# Altium integrated library Maxim Digital Potentiometers.IntLib: 1045 symbols (part 32 of 42)
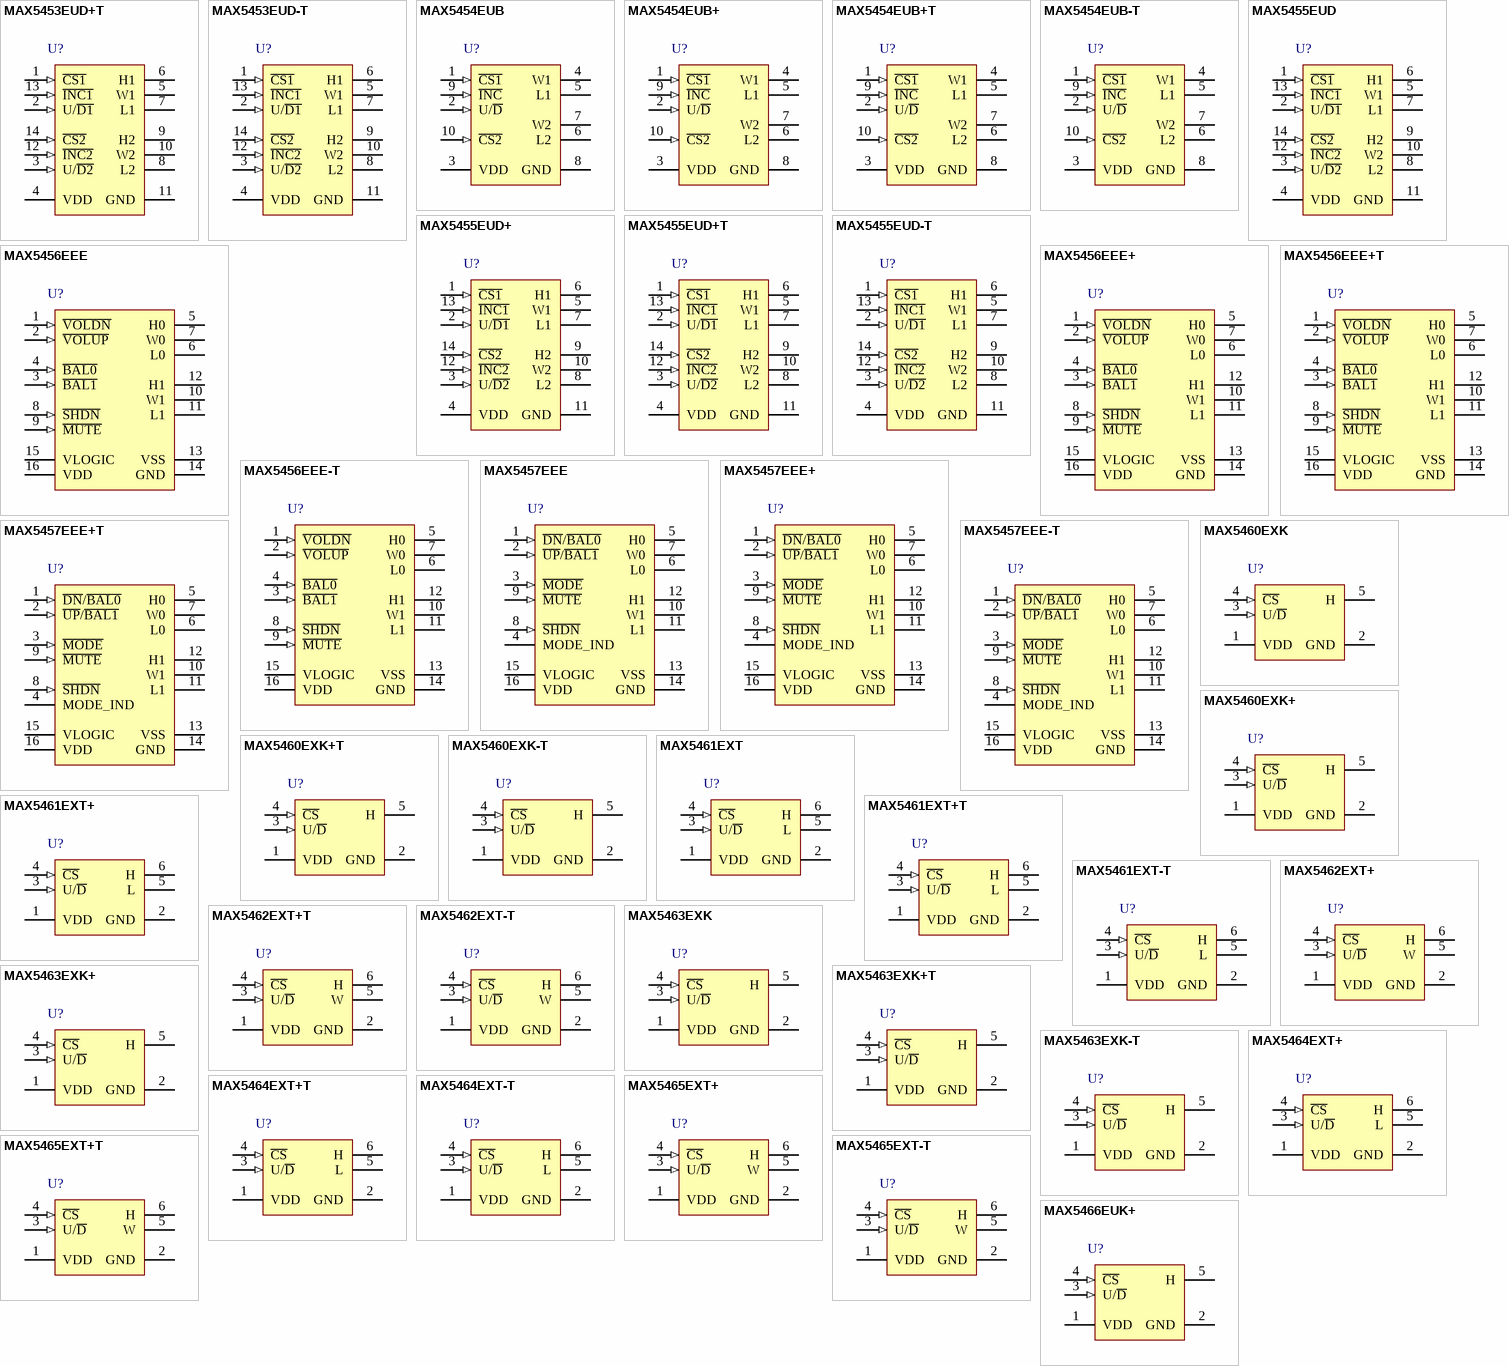
[diagram p60: symbols MAX5453EUD+T to MAX5466EUK+]

## MAX5462EXT+T
designator U?
FleaPot, Digital Potentiometers with 2-Wire Serial Control Interface, Volatile, Linear Taper, 32 Steps, -40 to 85 degC, 6-pin SC70 (X6SN+1), Pb-Free, Tape and Reel; PartNumber: MAX5462EXT+T; DatasheetVersion: Rev. 3; PackageVersion: Rev. H, 01/2010; PackageReference: X6SN+1; PackageDescription: 6-Pin SC70 Transistor Package (X6SN+1), Body 2 x 1.25 mm, Pitch 0.65 mm; Supplier 1: Digi-Key; Supplier Part Number 1: MAX5462EXT+TTR-ND; Supplier 2: Digi-Key; Supplier Part Number 2: MAX5462EXT+TCT-ND; Supplier 3: Digi-Key; Supplier Part Number 3: MAX5462EXT+TDKR-ND; Supplier 4: Mouser; Supplier Part Number 4: 700-MAX5462EXTT; Control Interface: 2-Wire Serial; Mounting Technology: Surface Mount; Code_JEDEC: MO-203; ComponentLink1Description: Manufacturer URL; ComponentLink1URL: http://www.maximintegrated.com/; ComponentLink2Description: Datasheet; ComponentLink2URL: http://datasheets.maximintegrated.com/en/ds/MAX5460-MAX5468.pdf; ComponentLink3Description: Package Specification; ComponentLink3URL: http://pdfserv.maximintegrated.com/package_dwgs/21-0077.PDF
footprint MAXM-X6SN+1_N (SOT23, 6-Leads, Body 2x1.25mm, Pitch 0.65mm, IPC Medium Density)
footprint MAXM-X6SN+1_L (SOT23, 6-Leads, Body 2x1.25mm, Pitch 0.65mm, IPC High Density)
footprint MAXM-X6SN+1_M (SOT23, 6-Leads, Body 2x1.25mm, Pitch 0.65mm, IPC Low Density)
pins: 1 VDD (power) "Power Supply", 2 GND (power) "Ground", 3 U/~{D} (in) "Up/D\o\w\n\ Control Input. With C\S\ low, a low-to-high transition increments or decrements the wiper position.", 4 ~{CS} (in) "Chip Select Input. A high-to-low C\S\ transition determines the mode: increment if U/D\ is high, or decrement if U/D\ is low.", 5 W "Wiper Terminal of Resistor", 6 H "High Terminal of Resistor"

## MAX5462EXT-T
designator U?
FleaPot, Digital Potentiometers with 2-Wire Serial Control Interface, Volatile, Linear Taper, 32 Steps, -40 to 85 degC, 6-pin SC70 (X6SN-1), Tape and Reel; PartNumber: MAX5462EXT-T; DatasheetVersion: Rev. 3; PackageVersion: Rev. H, 01/2010; PackageReference: X6SN-1; PackageDescription: 6-Pin SC70 Transistor Package (X6SN-1), Body 2 x 1.25 mm, Pitch 0.65 mm; Supplier 1: Mouser; Supplier Part Number 1: N/A; Control Interface: 2-Wire Serial; Mounting Technology: Surface Mount; Code_JEDEC: MO-203; ComponentLink1Description: Manufacturer URL; ComponentLink1URL: http://www.maximintegrated.com/; ComponentLink2Description: Datasheet; ComponentLink2URL: http://datasheets.maximintegrated.com/en/ds/MAX5460-MAX5468.pdf; ComponentLink3Description: Package Specification; ComponentLink3URL: http://pdfserv.maximintegrated.com/package_dwgs/21-0077.PDF
footprint MAXM-X6SN-1_N (SOT23, 6-Leads, Body 2x1.25mm, Pitch 0.65mm, IPC Medium Density)
footprint MAXM-X6SN-1_L (SOT23, 6-Leads, Body 2x1.25mm, Pitch 0.65mm, IPC High Density)
footprint MAXM-X6SN-1_M (SOT23, 6-Leads, Body 2x1.25mm, Pitch 0.65mm, IPC Low Density)
pins: 1 VDD (power) "Power Supply", 2 GND (power) "Ground", 3 U/~{D} (in) "Up/D\o\w\n\ Control Input. With C\S\ low, a low-to-high transition increments or decrements the wiper position.", 4 ~{CS} (in) "Chip Select Input. A high-to-low C\S\ transition determines the mode: increment if U/D\ is high, or decrement if U/D\ is low.", 5 W "Wiper Terminal of Resistor", 6 H "High Terminal of Resistor"

## MAX5463EXK
designator U?
Digital Potentiometer with 2-Wire Serial Control Interface, Volatile, Linear Taper, 32 Steps, -40 to 85 degC, 5-pin SC70 (X5-1); PartNumber: MAX5463EXK; DatasheetVersion: Rev. 3; PackageVersion: Rev. F, 06/2011; PackageReference: X5-1; PackageDescription: 5-Pin SC70 Transistor Package (X5-1), Body 2 x 1.25 mm, Pitch 0.65 mm; Supplier 1: Mouser; Supplier Part Number 1: N/A; Control Interface: 2-Wire Serial; Mounting Technology: Surface Mount; Code_JEDEC: MO-203; ComponentLink1Description: Manufacturer URL; ComponentLink1URL: http://www.maximintegrated.com/; ComponentLink2Description: Datasheet; ComponentLink2URL: http://datasheets.maximintegrated.com/en/ds/MAX5460-MAX5468.pdf; ComponentLink3Description: Package Specification; ComponentLink3URL: http://pdfserv.maximintegrated.com/package_dwgs/21-0076.PDF
footprint MAXM-X5-1_N (SOT23, 5-Leads, Body 2x1.25mm, Pitch 0.65mm, IPC Medium Density)
footprint MAXM-X5-1_L (SOT23, 5-Leads, Body 2x1.25mm, Pitch 0.65mm, IPC High Density)
footprint MAXM-X5-1_M (SOT23, 5-Leads, Body 2x1.25mm, Pitch 0.65mm, IPC Low Density)
pins: 1 VDD (power) "Power Supply", 2 GND (power) "Ground", 3 U/~{D} (in) "Up/D\o\w\n\ Control Input. With C\S\ low, a low-to-high transition increments or decrements the wiper position", 4 ~{CS} (in) "Chip Select Input. A high-to-low C\S\ transition determines the mode: increment if U/D\ is high, or decrement if U/D\ is low", 5 H "High Terminal of Resistor"

## MAX5463EXK+
designator U?
Digital Potentiometer with 2-Wire Serial Control Interface, Volatile, Linear Taper, 32 Steps, -40 to 85 degC, 5-pin SC70 (X5+1), Pb-Free; PartNumber: MAX5463EXK+; DatasheetVersion: Rev. 3; PackageVersion: Rev. F, 06/2011; PackageReference: X5+1; PackageDescription: 5-Pin SC70 Transistor Package (X5+1), Body 2 x 1.25 mm, Pitch 0.65 mm; Supplier 1: Mouser; Supplier Part Number 1: N/A; Control Interface: 2-Wire Serial; Mounting Technology: Surface Mount; Code_JEDEC: MO-203; ComponentLink1Description: Manufacturer URL; ComponentLink1URL: http://www.maximintegrated.com/; ComponentLink2Description: Datasheet; ComponentLink2URL: http://datasheets.maximintegrated.com/en/ds/MAX5460-MAX5468.pdf; ComponentLink3Description: Package Specification; ComponentLink3URL: http://pdfserv.maximintegrated.com/package_dwgs/21-0076.PDF
footprint MAXM-X5+1_N (SOT23, 5-Leads, Body 2x1.25mm, Pitch 0.65mm, IPC Medium Density)
footprint MAXM-X5+1_L (SOT23, 5-Leads, Body 2x1.25mm, Pitch 0.65mm, IPC High Density)
footprint MAXM-X5+1_M (SOT23, 5-Leads, Body 2x1.25mm, Pitch 0.65mm, IPC Low Density)
pins: 1 VDD (power) "Power Supply", 2 GND (power) "Ground", 3 U/~{D} (in) "Up/D\o\w\n\ Control Input. With C\S\ low, a low-to-high transition increments or decrements the wiper position", 4 ~{CS} (in) "Chip Select Input. A high-to-low C\S\ transition determines the mode: increment if U/D\ is high, or decrement if U/D\ is low", 5 H "High Terminal of Resistor"

## MAX5463EXK+T
designator U?
Digital Potentiometer with 2-Wire Serial Control Interface, Volatile, Linear Taper, 32 Steps, -40 to 85 degC, 5-pin SC70 (X5+1), Pb-Free, Tape and Reel; PartNumber: MAX5463EXK+T; DatasheetVersion: Rev. 3; PackageVersion: Rev. F, 06/2011; PackageReference: X5+1; PackageDescription: 5-Pin SC70 Transistor Package (X5+1), Body 2 x 1.25 mm, Pitch 0.65 mm; Supplier 1: Digi-Key; Supplier Part Number 1: MAX5463EXK+TTR-ND; Supplier 2: Digi-Key; Supplier Part Number 2: MAX5463EXK+TCT-ND; Supplier 3: Digi-Key; Supplier Part Number 3: MAX5463EXK+TDKR-ND; Supplier 4: Mouser; Supplier Part Number 4: 700-MAX5463EXKT; Control Interface: 2-Wire Serial; Mounting Technology: Surface Mount; Code_JEDEC: MO-203; ComponentLink1Description: Manufacturer URL; ComponentLink1URL: http://www.maximintegrated.com/; ComponentLink2Description: Datasheet; ComponentLink2URL: http://datasheets.maximintegrated.com/en/ds/MAX5460-MAX5468.pdf; ComponentLink3Description: Package Specification; ComponentLink3URL: http://pdfserv.maximintegrated.com/package_dwgs/21-0076.PDF
footprint MAXM-X5+1_N (SOT23, 5-Leads, Body 2x1.25mm, Pitch 0.65mm, IPC Medium Density)
footprint MAXM-X5+1_L (SOT23, 5-Leads, Body 2x1.25mm, Pitch 0.65mm, IPC High Density)
footprint MAXM-X5+1_M (SOT23, 5-Leads, Body 2x1.25mm, Pitch 0.65mm, IPC Low Density)
pins: 1 VDD (power) "Power Supply", 2 GND (power) "Ground", 3 U/~{D} (in) "Up/D\o\w\n\ Control Input. With C\S\ low, a low-to-high transition increments or decrements the wiper position", 4 ~{CS} (in) "Chip Select Input. A high-to-low C\S\ transition determines the mode: increment if U/D\ is high, or decrement if U/D\ is low", 5 H "High Terminal of Resistor"

## MAX5463EXK-T
designator U?
Digital Potentiometer with 2-Wire Serial Control Interface, Volatile, Linear Taper, 32 Steps, -40 to 85 degC, 5-pin SC70 (X5-1), Tape and Reel; PartNumber: MAX5463EXK-T; DatasheetVersion: Rev. 3; PackageVersion: Rev. F, 06/2011; PackageReference: X5-1; PackageDescription: 5-Pin SC70 Transistor Package (X5-1), Body 2 x 1.25 mm, Pitch 0.65 mm; Supplier 1: Mouser; Supplier Part Number 1: N/A; Control Interface: 2-Wire Serial; Mounting Technology: Surface Mount; Code_JEDEC: MO-203; ComponentLink1Description: Manufacturer URL; ComponentLink1URL: http://www.maximintegrated.com/; ComponentLink2Description: Datasheet; ComponentLink2URL: http://datasheets.maximintegrated.com/en/ds/MAX5460-MAX5468.pdf; ComponentLink3Description: Package Specification; ComponentLink3URL: http://pdfserv.maximintegrated.com/package_dwgs/21-0076.PDF
footprint MAXM-X5-1_N (SOT23, 5-Leads, Body 2x1.25mm, Pitch 0.65mm, IPC Medium Density)
footprint MAXM-X5-1_L (SOT23, 5-Leads, Body 2x1.25mm, Pitch 0.65mm, IPC High Density)
footprint MAXM-X5-1_M (SOT23, 5-Leads, Body 2x1.25mm, Pitch 0.65mm, IPC Low Density)
pins: 1 VDD (power) "Power Supply", 2 GND (power) "Ground", 3 U/~{D} (in) "Up/D\o\w\n\ Control Input. With C\S\ low, a low-to-high transition increments or decrements the wiper position", 4 ~{CS} (in) "Chip Select Input. A high-to-low C\S\ transition determines the mode: increment if U/D\ is high, or decrement if U/D\ is low", 5 H "High Terminal of Resistor"

## MAX5464EXT+
designator U?
Digital Potentiometers with 2-Wire Serial Control Interface, Volatile, Linear Taper, 32 Steps, -40 to 85 degC, 6-pin SC70 (X6SN+1), Pb-Free; PartNumber: MAX5464EXT+; DatasheetVersion: Rev. 3; PackageVersion: Rev. H, 01/2010; PackageReference: X6SN+1; PackageDescription: 6-Pin SC70 Transistor Package (X6SN+1), Body 2 x 1.25 mm, Pitch 0.65 mm; Supplier 1: Mouser; Supplier Part Number 1: N/A; Control Interface: 2-Wire Serial; Mounting Technology: Surface Mount; Code_JEDEC: MO-203; ComponentLink1Description: Manufacturer URL; ComponentLink1URL: http://www.maximintegrated.com/; ComponentLink2Description: Datasheet; ComponentLink2URL: http://datasheets.maximintegrated.com/en/ds/MAX5460-MAX5468.pdf; ComponentLink3Description: Package Specification; ComponentLink3URL: http://pdfserv.maximintegrated.com/package_dwgs/21-0077.PDF
footprint MAXM-X6SN+1_N (SOT23, 6-Leads, Body 2x1.25mm, Pitch 0.65mm, IPC Medium Density)
footprint MAXM-X6SN+1_L (SOT23, 6-Leads, Body 2x1.25mm, Pitch 0.65mm, IPC High Density)
footprint MAXM-X6SN+1_M (SOT23, 6-Leads, Body 2x1.25mm, Pitch 0.65mm, IPC Low Density)
pins: 1 VDD (power) "Power Supply", 2 GND (power) "Ground", 3 U/~{D} (in) "Up/D\o\w\n\ Control Input. With C\S\ low, a low-to-high transition increments or decrements the wiper position", 4 ~{CS} (in) "Chip Select Input. A high-to-low C\S\ transition determines the mode: increment if U/D\ is high, or decrement if U/D\ is low", 5 L "Low Terminal of Resistor", 6 H "High Terminal of Resistor"

## MAX5464EXT+T
designator U?
Digital Potentiometers with 2-Wire Serial Control Interface, Volatile, Linear Taper, 32 Steps, -40 to 85 degC, 6-pin SC70 (X6SN+1), Pb-Free, Tape and Reel; PartNumber: MAX5464EXT+T; DatasheetVersion: Rev. 3; PackageVersion: Rev. H, 01/2010; PackageReference: X6SN+1; PackageDescription: 6-Pin SC70 Transistor Package (X6SN+1), Body 2 x 1.25 mm, Pitch 0.65 mm; Supplier 1: Digi-Key; Supplier Part Number 1: MAX5464EXT+TTR-ND; Supplier 2: Digi-Key; Supplier Part Number 2: MAX5464EXT+TCT-ND; Supplier 3: Digi-Key; Supplier Part Number 3: MAX5464EXT+TDKR-ND; Supplier 4: Mouser; Supplier Part Number 4: 700-MAX5464EXTT; Control Interface: 2-Wire Serial; Mounting Technology: Surface Mount; Code_JEDEC: MO-203; ComponentLink1Description: Manufacturer URL; ComponentLink1URL: http://www.maximintegrated.com/; ComponentLink2Description: Datasheet; ComponentLink2URL: http://datasheets.maximintegrated.com/en/ds/MAX5460-MAX5468.pdf; ComponentLink3Description: Package Specification; ComponentLink3URL: http://pdfserv.maximintegrated.com/package_dwgs/21-0077.PDF
footprint MAXM-X6SN+1_N (SOT23, 6-Leads, Body 2x1.25mm, Pitch 0.65mm, IPC Medium Density)
footprint MAXM-X6SN+1_L (SOT23, 6-Leads, Body 2x1.25mm, Pitch 0.65mm, IPC High Density)
footprint MAXM-X6SN+1_M (SOT23, 6-Leads, Body 2x1.25mm, Pitch 0.65mm, IPC Low Density)
pins: 1 VDD (power) "Power Supply", 2 GND (power) "Ground", 3 U/~{D} (in) "Up/D\o\w\n\ Control Input. With C\S\ low, a low-to-high transition increments or decrements the wiper position", 4 ~{CS} (in) "Chip Select Input. A high-to-low C\S\ transition determines the mode: increment if U/D\ is high, or decrement if U/D\ is low", 5 L "Low Terminal of Resistor", 6 H "High Terminal of Resistor"

## MAX5464EXT-T
designator U?
Digital Potentiometers with 2-Wire Serial Control Interface, Volatile, Linear Taper, 32 Steps, -40 to 85 degC, 6-pin SC70 (X6SN-1), Tape and Reel; PartNumber: MAX5464EXT-T; DatasheetVersion: Rev. 3; PackageVersion: Rev. H, 01/2010; PackageReference: X6SN-1; PackageDescription: 6-Pin SC70 Transistor Package (X6SN-1), Body 2 x 1.25 mm, Pitch 0.65 mm; Supplier 1: Mouser; Supplier Part Number 1: N/A; Control Interface: 2-Wire Serial; Mounting Technology: Surface Mount; Code_JEDEC: MO-203; ComponentLink1Description: Manufacturer URL; ComponentLink1URL: http://www.maximintegrated.com/; ComponentLink2Description: Datasheet; ComponentLink2URL: http://datasheets.maximintegrated.com/en/ds/MAX5460-MAX5468.pdf; ComponentLink3Description: Package Specification; ComponentLink3URL: http://pdfserv.maximintegrated.com/package_dwgs/21-0077.PDF
footprint MAXM-X6SN-1_N (SOT23, 6-Leads, Body 2x1.25mm, Pitch 0.65mm, IPC Medium Density)
footprint MAXM-X6SN-1_L (SOT23, 6-Leads, Body 2x1.25mm, Pitch 0.65mm, IPC High Density)
footprint MAXM-X6SN-1_M (SOT23, 6-Leads, Body 2x1.25mm, Pitch 0.65mm, IPC Low Density)
pins: 1 VDD (power) "Power Supply", 2 GND (power) "Ground", 3 U/~{D} (in) "Up/D\o\w\n\ Control Input. With C\S\ low, a low-to-high transition increments or decrements the wiper position", 4 ~{CS} (in) "Chip Select Input. A high-to-low C\S\ transition determines the mode: increment if U/D\ is high, or decrement if U/D\ is low", 5 L "Low Terminal of Resistor", 6 H "High Terminal of Resistor"

## MAX5465EXT+
designator U?
Digital Potentiometers with 2-Wire Serial Control Interface, Volatile, Linear Taper, 32 Steps, -40 to 85 degC, 6-pin SC70 (X6SN+1), Pb-Free,; PartNumber: MAX5465EXT+; DatasheetVersion: Rev. 3; PackageVersion: Rev. H, 01/2010; PackageReference: X6SN+1; PackageDescription: 6-Pin SC70 Transistor Package (X6SN+1), Body 2 x 1.25 mm, Pitch 0.65 mm; Supplier 1: Mouser; Supplier Part Number 1: N/A; Control Interface: 2-Wire Serial; Mounting Technology: Surface Mount; Code_JEDEC: MO-203; ComponentLink1Description: Manufacturer URL; ComponentLink1URL: http://www.maximintegrated.com/; ComponentLink2Description: Datasheet; ComponentLink2URL: http://datasheets.maximintegrated.com/en/ds/MAX5460-MAX5468.pdf; ComponentLink3Description: Package Specification; ComponentLink3URL: http://pdfserv.maximintegrated.com/package_dwgs/21-0077.PDF
footprint MAXM-X6SN+1_N (SOT23, 6-Leads, Body 2x1.25mm, Pitch 0.65mm, IPC Medium Density)
footprint MAXM-X6SN+1_L (SOT23, 6-Leads, Body 2x1.25mm, Pitch 0.65mm, IPC High Density)
footprint MAXM-X6SN+1_M (SOT23, 6-Leads, Body 2x1.25mm, Pitch 0.65mm, IPC Low Density)
pins: 1 VDD (power) "Power Supply", 2 GND (power) "Ground", 3 U/~{D} (in) "Up/D\o\w\n\ Control Input. With C\S\ low, a low-to-high transition increments or decrements the wiper position.", 4 ~{CS} (in) "Chip Select Input. A high-to-low C\S\ transition determines the mode: increment if U/D\ is high, or decrement if U/D\ is low.", 5 W "Wiper Terminal of Resistor", 6 H "High Terminal of Resistor"

## MAX5465EXT+T
designator U?
Digital Potentiometers with 2-Wire Serial Control Interface, Volatile, Linear Taper, 32 Steps, -40 to 85 degC, 6-pin SC70 (X6SN+1), Pb-Free, Tape and Reel; PartNumber: MAX5465EXT+T; DatasheetVersion: Rev. 3; PackageVersion: Rev. H, 01/2010; PackageReference: X6SN+1; PackageDescription: 6-Pin SC70 Transistor Package (X6SN+1), Body 2 x 1.25 mm, Pitch 0.65 mm; Supplier 1: Digi-Key; Supplier Part Number 1: MAX5465EXT+TTR-ND; Supplier 2: Digi-Key; Supplier Part Number 2: MAX5465EXT+TCT-ND; Supplier 3: Digi-Key; Supplier Part Number 3: MAX5465EXT+TDKR-ND; Supplier 4: Mouser; Supplier Part Number 4: 700-MAX5465EXTT; Control Interface: 2-Wire Serial; Mounting Technology: Surface Mount; Code_JEDEC: MO-203; ComponentLink1Description: Manufacturer URL; ComponentLink1URL: http://www.maximintegrated.com/; ComponentLink2Description: Datasheet; ComponentLink2URL: http://datasheets.maximintegrated.com/en/ds/MAX5460-MAX5468.pdf; ComponentLink3Description: Package Specification; ComponentLink3URL: http://pdfserv.maximintegrated.com/package_dwgs/21-0077.PDF
footprint MAXM-X6SN+1_N (SOT23, 6-Leads, Body 2x1.25mm, Pitch 0.65mm, IPC Medium Density)
footprint MAXM-X6SN+1_L (SOT23, 6-Leads, Body 2x1.25mm, Pitch 0.65mm, IPC High Density)
footprint MAXM-X6SN+1_M (SOT23, 6-Leads, Body 2x1.25mm, Pitch 0.65mm, IPC Low Density)
pins: 1 VDD (power) "Power Supply", 2 GND (power) "Ground", 3 U/~{D} (in) "Up/D\o\w\n\ Control Input. With C\S\ low, a low-to-high transition increments or decrements the wiper position.", 4 ~{CS} (in) "Chip Select Input. A high-to-low C\S\ transition determines the mode: increment if U/D\ is high, or decrement if U/D\ is low.", 5 W "Wiper Terminal of Resistor", 6 H "High Terminal of Resistor"

## MAX5465EXT-T
designator U?
Digital Potentiometers with 2-Wire Serial Control Interface, Volatile, Linear Taper, 32 Steps, -40 to 85 degC, 6-pin SC70 (X6SN-1), Tape and Reel; PartNumber: MAX5465EXT-T; DatasheetVersion: Rev. 3; PackageVersion: Rev. H, 01/2010; PackageReference: X6SN-1; PackageDescription: 6-Pin SC70 Transistor Package (X6SN-1), Body 2 x 1.25 mm, Pitch 0.65 mm; Supplier 1: Mouser; Supplier Part Number 1: N/A; Control Interface: 2-Wire Serial; Mounting Technology: Surface Mount; Code_JEDEC: MO-203; ComponentLink1Description: Manufacturer URL; ComponentLink1URL: http://www.maximintegrated.com/; ComponentLink2Description: Datasheet; ComponentLink2URL: http://datasheets.maximintegrated.com/en/ds/MAX5460-MAX5468.pdf; ComponentLink3Description: Package Specification; ComponentLink3URL: http://pdfserv.maximintegrated.com/package_dwgs/21-0077.PDF
footprint MAXM-X6SN-1_N (SOT23, 6-Leads, Body 2x1.25mm, Pitch 0.65mm, IPC Medium Density)
footprint MAXM-X6SN-1_L (SOT23, 6-Leads, Body 2x1.25mm, Pitch 0.65mm, IPC High Density)
footprint MAXM-X6SN-1_M (SOT23, 6-Leads, Body 2x1.25mm, Pitch 0.65mm, IPC Low Density)
pins: 1 VDD (power) "Power Supply", 2 GND (power) "Ground", 3 U/~{D} (in) "Up/D\o\w\n\ Control Input. With C\S\ low, a low-to-high transition increments or decrements the wiper position.", 4 ~{CS} (in) "Chip Select Input. A high-to-low C\S\ transition determines the mode: increment if U/D\ is high, or decrement if U/D\ is low.", 5 W "Wiper Terminal of Resistor", 6 H "High Terminal of Resistor"

## MAX5466EUK+
designator U?
FleaPot, Digital Potentiometers with 2-Wire Serial Control Interface, Volatile, Linear Taper, 32 Steps, -40 to 85 degC, 5-pin SOT (U5+1), Pb-Free; PartNumber: MAX5466EUK+; DatasheetVersion: Rev. 3; PackageVersion: Rev. G, 04/2011; PackageReference: U5+1; PackageDescription: 5-Pin Small-Outline Transistor Package (U5+1), Body 2.90 x 1.625 mm, Pitch 0.95 mm; Supplier 1: Mouser; Supplier Part Number 1: N/A; Control Interface: 2-Wire Serial; Mounting Technology: Surface Mount; Code_JEDEC: MO178; ComponentLink1Description: Manufacturer URL; ComponentLink1URL: http://www.maximintegrated.com/; ComponentLink2Description: Datasheet; ComponentLink2URL: http://datasheets.maximintegrated.com/en/ds/MAX5460-MAX5468.pdf; ComponentLink3Description: Package Specification; ComponentLink3URL: http://pdfserv.maximintegrated.com/package_dwgs/21-0057.PDF
footprint MAXM-U5+1_N (SOT23, 5-Leads, Body 2.9x1.625mm, Pitch 0.95mm, IPC Medium Density)
footprint MAXM-U5+1_L (SOT23, 5-Leads, Body 2.9x1.625mm, Pitch 0.95mm, IPC High Density)
footprint MAXM-U5+1_M (SOT23, 5-Leads, Body 2.9x1.625mm, Pitch 0.95mm, IPC Low Density)
pins: 1 VDD (power) "Power Supply", 2 GND (power) "Ground", 3 U/~{D} (in) "Up/D\o\w\n\ Control Input. With C\S\ low, a low-to-high transition increments or decrements the wiper position", 4 ~{CS} (in) "Chip Select Input. A high-to-low C\S\ transition determines the mode: increment if U/D\ is high, or decrement if U/D\ is low", 5 H "High Terminal of Resistor"

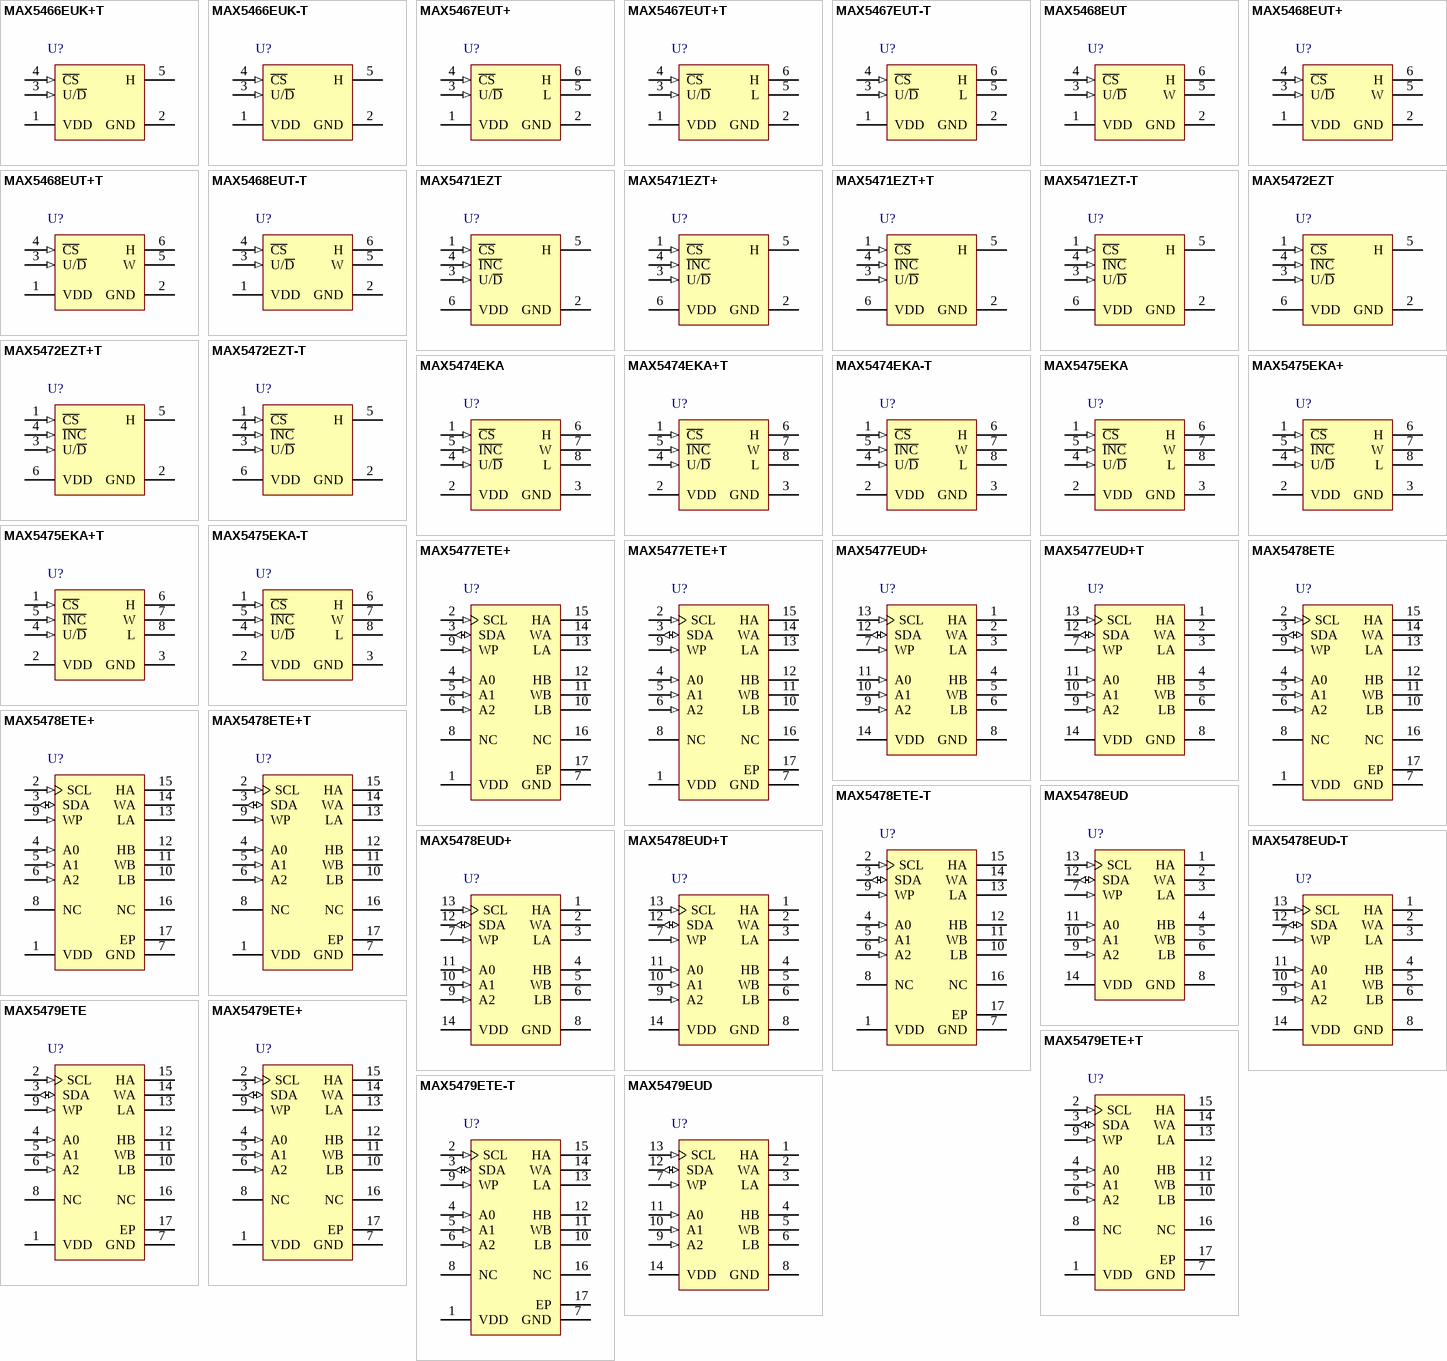
[diagram p22: symbols MAX5466EUK+T to MAX5479EUD]

## MAX5466EUK+T
designator U?
FleaPot, Digital Potentiometers with 2-Wire Serial Control Interface, Volatile, Linear Taper, 32 Steps, -40 to 85 degC, 5-pin SOT (U5+1), Pb-Free, Tape and Reel; PartNumber: MAX5466EUK+T; DatasheetVersion: Rev. 3; PackageVersion: Rev. G, 04/2011; PackageReference: U5+1; PackageDescription: 5-Pin Small-Outline Transistor Package (U5+1), Body 2.90 x 1.625 mm, Pitch 0.95 mm; Supplier 1: Digi-Key; Supplier Part Number 1: MAX5466EUK+T-ND; Supplier 2: Mouser; Supplier Part Number 2: 700-MAX5466EUKT; Control Interface: 2-Wire Serial; Mounting Technology: Surface Mount; Code_JEDEC: MO178; ComponentLink1Description: Manufacturer URL; ComponentLink1URL: http://www.maximintegrated.com/; ComponentLink2Description: Datasheet; ComponentLink2URL: http://datasheets.maximintegrated.com/en/ds/MAX5460-MAX5468.pdf; ComponentLink3Description: Package Specification; ComponentLink3URL: http://pdfserv.maximintegrated.com/package_dwgs/21-0057.PDF
footprint MAXM-U5+1_N (SOT23, 5-Leads, Body 2.9x1.625mm, Pitch 0.95mm, IPC Medium Density)
footprint MAXM-U5+1_L (SOT23, 5-Leads, Body 2.9x1.625mm, Pitch 0.95mm, IPC High Density)
footprint MAXM-U5+1_M (SOT23, 5-Leads, Body 2.9x1.625mm, Pitch 0.95mm, IPC Low Density)
pins: 1 VDD (power) "Power Supply", 2 GND (power) "Ground", 3 U/~{D} (in) "Up/D\o\w\n\ Control Input. With C\S\ low, a low-to-high transition increments or decrements the wiper position", 4 ~{CS} (in) "Chip Select Input. A high-to-low C\S\ transition determines the mode: increment if U/D\ is high, or decrement if U/D\ is low", 5 H "High Terminal of Resistor"

## MAX5466EUK-T
designator U?
FleaPot, Digital Potentiometers with 2-Wire Serial Control Interface, Volatile, Linear Taper, 32 Steps, -40 to 85 degC, 5-pin SOT (U5-1), Tape and Reel; PartNumber: MAX5466EUK-T; DatasheetVersion: Rev. 3; PackageVersion: Rev. G, 04/2011; PackageReference: U5-1; PackageDescription: 5-Pin Small-Outline Transistor Package (U5-1), Body 2.9 x 1.625 mm, Pitch 0.95 mm; Supplier 1: Mouser; Supplier Part Number 1: N/A; Control Interface: 2-Wire Serial; Mounting Technology: Surface Mount; Code_JEDEC: MO178; ComponentLink1Description: Manufacturer URL; ComponentLink1URL: http://www.maximintegrated.com/; ComponentLink2Description: Datasheet; ComponentLink2URL: http://datasheets.maximintegrated.com/en/ds/MAX5460-MAX5468.pdf; ComponentLink3Description: Package Specification; ComponentLink3URL: http://pdfserv.maximintegrated.com/package_dwgs/21-0057.PDF
footprint MAXM-U5-1_N (SOT23, 5-Leads, Body 2.9x1.625mm, Pitch 0.95mm, IPC Medium Density)
footprint MAXM-U5-1_L (SOT23, 5-Leads, Body 2.9x1.625mm, Pitch 0.95mm, IPC High Density)
footprint MAXM-U5-1_M (SOT23, 5-Leads, Body 2.9x1.625mm, Pitch 0.95mm, IPC Low Density)
pins: 1 VDD (power) "Power Supply", 2 GND (power) "Ground", 3 U/~{D} (in) "Up/D\o\w\n\ Control Input. With C\S\ low, a low-to-high transition increments or decrements the wiper position", 4 ~{CS} (in) "Chip Select Input. A high-to-low C\S\ transition determines the mode: increment if U/D\ is high, or decrement if U/D\ is low", 5 H "High Terminal of Resistor"

## MAX5467EUT+
designator U?
FleaPot, Digital Potentiometers with 2-Wire Serial Control Interface, Volatile, Linear Taper, 32 Steps, -40 to 85 degC, 6-pin SOT (U6+1), Pb-Free; PartNumber: MAX5467EUT+; DatasheetVersion: Rev. 3; PackageVersion: Rev. N, 08/2012; PackageReference: U6+1; PackageDescription: 6-Pin Small-Outline Transistor Package (U6+1), Body 2.9 x 1.625 mm, Pitch 0.95 mm; Supplier 1: Mouser; Supplier Part Number 1: N/A; Control Interface: 2-Wire Serial; Mounting Technology: Surface Mount; Code_JEDEC: MO178; ComponentLink1Description: Manufacturer URL; ComponentLink1URL: http://www.maximintegrated.com/; ComponentLink2Description: Datasheet; ComponentLink2URL: http://datasheets.maximintegrated.com/en/ds/MAX5460-MAX5468.pdf; ComponentLink3Description: Package Specification; ComponentLink3URL: http://pdfserv.maximintegrated.com/package_dwgs/21-0058.PDF
footprint MAXM-U6+1_N (SOT23, 6-Leads, Body 2.9x1.625mm, Pitch 0.95mm, IPC Medium Density)
footprint MAXM-U6+1_L (SOT23, 6-Leads, Body 2.9x1.625mm, Pitch 0.95mm, IPC High Density)
footprint MAXM-U6+1_M (SOT23, 6-Leads, Body 2.9x1.625mm, Pitch 0.95mm, IPC Low Density)
pins: 1 VDD (power) "Power Supply", 2 GND (power) "Ground", 3 U/~{D} (in) "Up/D\o\w\n\ Control Input. With C\S\ low, a low-to-high transition increments or decrements the wiper position", 4 ~{CS} (in) "Chip Select Input. A high-to-low C\S\ transition determines the mode: increment if U/D\ is high, or decrement if U/D\ is low", 5 L "Low Terminal of Resistor", 6 H "High Terminal of Resistor"

## MAX5467EUT+T
designator U?
FleaPot, Digital Potentiometers with 2-Wire Serial Control Interface, Volatile, Linear Taper, 32 Steps, -40 to 85 degC, 6-pin SOT (U6+1), Pb-Free, Tape and Reel; PartNumber: MAX5467EUT+T; DatasheetVersion: Rev. 3; PackageVersion: Rev. N, 08/2012; PackageReference: U6+1; PackageDescription: 6-Pin Small-Outline Transistor Package (U6+1), Body 2.9 x 1.625 mm, Pitch 0.95 mm; Supplier 1: Digi-Key; Supplier Part Number 1: MAX5467EUT+TTR-ND; Supplier 2: Digi-Key; Supplier Part Number 2: MAX5467EUT+TCT-ND; Supplier 3: Digi-Key; Supplier Part Number 3: MAX5467EUT+TDKR-ND; Supplier 4: Mouser; Supplier Part Number 4: 700-MAX5467EUTT; Control Interface: 2-Wire Serial; Mounting Technology: Surface Mount; Code_JEDEC: MO178; ComponentLink1Description: Manufacturer URL; ComponentLink1URL: http://www.maximintegrated.com/; ComponentLink2Description: Datasheet; ComponentLink2URL: http://datasheets.maximintegrated.com/en/ds/MAX5460-MAX5468.pdf; ComponentLink3Description: Package Specification; ComponentLink3URL: http://pdfserv.maximintegrated.com/package_dwgs/21-0058.PDF
footprint MAXM-U6+1_N (SOT23, 6-Leads, Body 2.9x1.625mm, Pitch 0.95mm, IPC Medium Density)
footprint MAXM-U6+1_L (SOT23, 6-Leads, Body 2.9x1.625mm, Pitch 0.95mm, IPC High Density)
footprint MAXM-U6+1_M (SOT23, 6-Leads, Body 2.9x1.625mm, Pitch 0.95mm, IPC Low Density)
pins: 1 VDD (power) "Power Supply", 2 GND (power) "Ground", 3 U/~{D} (in) "Up/D\o\w\n\ Control Input. With C\S\ low, a low-to-high transition increments or decrements the wiper position", 4 ~{CS} (in) "Chip Select Input. A high-to-low C\S\ transition determines the mode: increment if U/D\ is high, or decrement if U/D\ is low", 5 L "Low Terminal of Resistor", 6 H "High Terminal of Resistor"

## MAX5467EUT-T
designator U?
FleaPot, Digital Potentiometers with 2-Wire Serial Control Interface, Volatile, Linear Taper, 32 Steps, -40 to 85 degC, 6-pin SOT (U6-1), Tape and Reel; PartNumber: MAX5467EUT-T; DatasheetVersion: Rev. 3; PackageVersion: Rev. N, 08/2012; PackageReference: U6-1; PackageDescription: 6-Pin Small-Outline Transistor Package (U6-1), Body 2.9 x 1.625 mm, Pitch 0.95 mm; Supplier 1: Mouser; Supplier Part Number 1: N/A; Control Interface: 2-Wire Serial; Mounting Technology: Surface Mount; Code_JEDEC: MO178; ComponentLink1Description: Manufacturer URL; ComponentLink1URL: http://www.maximintegrated.com/; ComponentLink2Description: Datasheet; ComponentLink2URL: http://datasheets.maximintegrated.com/en/ds/MAX5460-MAX5468.pdf; ComponentLink3Description: Package Specification; ComponentLink3URL: http://pdfserv.maximintegrated.com/package_dwgs/21-0058.PDF
footprint MAXM-U6-1_N (SOT23, 6-Leads, Body 2.9x1.625mm, Pitch 0.95mm, IPC Medium Density)
footprint MAXM-U6-1_L (SOT23, 6-Leads, Body 2.9x1.625mm, Pitch 0.95mm, IPC High Density)
footprint MAXM-U6-1_M (SOT23, 6-Leads, Body 2.9x1.625mm, Pitch 0.95mm, IPC Low Density)
pins: 1 VDD (power) "Power Supply", 2 GND (power) "Ground", 3 U/~{D} (in) "Up/D\o\w\n\ Control Input. With C\S\ low, a low-to-high transition increments or decrements the wiper position", 4 ~{CS} (in) "Chip Select Input. A high-to-low C\S\ transition determines the mode: increment if U/D\ is high, or decrement if U/D\ is low", 5 L "Low Terminal of Resistor", 6 H "High Terminal of Resistor"

## MAX5468EUT
designator U?
Digital Potentiometer with 2-Wire Serial Control Interface, Volatile, Linear Taper, 32 Steps, -40 to 85 degC, 6-pin SOT (U6-1); PartNumber: MAX5468EUT; DatasheetVersion: Rev. 3; PackageVersion: Rev. N, 08/2012; PackageReference: U6-1; PackageDescription: 6-Pin Small-Outline Transistor Package (U6-1), Body 2.9 x 1.625 mm, Pitch 0.95 mm; Supplier 1: Mouser; Supplier Part Number 1: N/A; Control Interface: 2-Wire Serial; Mounting Technology: Surface Mount; Code_JEDEC: MO178; ComponentLink1Description: Manufacturer URL; ComponentLink1URL: http://www.maximintegrated.com/; ComponentLink2Description: Datasheet; ComponentLink2URL: http://datasheets.maximintegrated.com/en/ds/MAX5460-MAX5468.pdf; ComponentLink3Description: Package Specification; ComponentLink3URL: http://pdfserv.maximintegrated.com/package_dwgs/21-0058.PDF
footprint MAXM-U6-1_N (SOT23, 6-Leads, Body 2.9x1.625mm, Pitch 0.95mm, IPC Medium Density)
footprint MAXM-U6-1_L (SOT23, 6-Leads, Body 2.9x1.625mm, Pitch 0.95mm, IPC High Density)
footprint MAXM-U6-1_M (SOT23, 6-Leads, Body 2.9x1.625mm, Pitch 0.95mm, IPC Low Density)
pins: 1 VDD (power) "Power Supply", 2 GND (power) "Ground", 3 U/~{D} (in) "Up/D\o\w\n\ Control Input. With C\S\ low, a low-to-high transition increments or decrements the wiper position.", 4 ~{CS} (in) "Chip Select Input. A high-to-low C\S\ transition determines the mode: increment if U/D\ is high, or decrement if U/D\ is low.", 5 W "Wiper Terminal of Resistor", 6 H "High Terminal of Resistor"

## MAX5468EUT+
designator U?
Digital Potentiometer with 2-Wire Serial Control Interface, Volatile, Linear Taper, 32 Steps, -40 to 85 degC, 6-pin SOT (U6+1), Pb-Free; PartNumber: MAX5468EUT+; DatasheetVersion: Rev. 3; PackageVersion: Rev. N, 08/2012; PackageReference: U6+1; PackageDescription: 6-Pin Small-Outline Transistor Package (U6+1), Body 2.9 x 1.625 mm, Pitch 0.95 mm; Supplier 1: Mouser; Supplier Part Number 1: N/A; Control Interface: 2-Wire Serial; Mounting Technology: Surface Mount; Code_JEDEC: MO178; ComponentLink1Description: Manufacturer URL; ComponentLink1URL: http://www.maximintegrated.com/; ComponentLink2Description: Datasheet; ComponentLink2URL: http://datasheets.maximintegrated.com/en/ds/MAX5460-MAX5468.pdf; ComponentLink3Description: Package Specification; ComponentLink3URL: http://pdfserv.maximintegrated.com/package_dwgs/21-0058.PDF
footprint MAXM-U6+1_N (SOT23, 6-Leads, Body 2.9x1.625mm, Pitch 0.95mm, IPC Medium Density)
footprint MAXM-U6+1_L (SOT23, 6-Leads, Body 2.9x1.625mm, Pitch 0.95mm, IPC High Density)
footprint MAXM-U6+1_M (SOT23, 6-Leads, Body 2.9x1.625mm, Pitch 0.95mm, IPC Low Density)
pins: 1 VDD (power) "Power Supply", 2 GND (power) "Ground", 3 U/~{D} (in) "Up/D\o\w\n\ Control Input. With C\S\ low, a low-to-high transition increments or decrements the wiper position.", 4 ~{CS} (in) "Chip Select Input. A high-to-low C\S\ transition determines the mode: increment if U/D\ is high, or decrement if U/D\ is low.", 5 W "Wiper Terminal of Resistor", 6 H "High Terminal of Resistor"

## MAX5468EUT+T
designator U?
Digital Potentiometer with 2-Wire Serial Control Interface, Volatile, Linear Taper, 32 Steps, -40 to 85 degC, 6-pin SOT (U6+1), Pb-Free, Tape and Reel; PartNumber: MAX5468EUT+T; DatasheetVersion: Rev. 3; PackageVersion: Rev. N, 08/2012; PackageReference: U6+1; PackageDescription: 6-Pin Small-Outline Transistor Package (U6+1), Body 2.9 x 1.625 mm, Pitch 0.95 mm; Supplier 1: Digi-Key; Supplier Part Number 1: MAX5468EUT+TTR-ND; Supplier 2: Digi-Key; Supplier Part Number 2: MAX5468EUT+TCT-ND; Supplier 3: Digi-Key; Supplier Part Number 3: MAX5468EUT+TDKR-ND; Supplier 4: Mouser; Supplier Part Number 4: 700-MAX5468EUTT; Control Interface: 2-Wire Serial; Mounting Technology: Surface Mount; Code_JEDEC: MO178; ComponentLink1Description: Manufacturer URL; ComponentLink1URL: http://www.maximintegrated.com/; ComponentLink2Description: Datasheet; ComponentLink2URL: http://datasheets.maximintegrated.com/en/ds/MAX5460-MAX5468.pdf; ComponentLink3Description: Package Specification; ComponentLink3URL: http://pdfserv.maximintegrated.com/package_dwgs/21-0058.PDF
footprint MAXM-U6+1_N (SOT23, 6-Leads, Body 2.9x1.625mm, Pitch 0.95mm, IPC Medium Density)
footprint MAXM-U6+1_L (SOT23, 6-Leads, Body 2.9x1.625mm, Pitch 0.95mm, IPC High Density)
footprint MAXM-U6+1_M (SOT23, 6-Leads, Body 2.9x1.625mm, Pitch 0.95mm, IPC Low Density)
pins: 1 VDD (power) "Power Supply", 2 GND (power) "Ground", 3 U/~{D} (in) "Up/D\o\w\n\ Control Input. With C\S\ low, a low-to-high transition increments or decrements the wiper position.", 4 ~{CS} (in) "Chip Select Input. A high-to-low C\S\ transition determines the mode: increment if U/D\ is high, or decrement if U/D\ is low.", 5 W "Wiper Terminal of Resistor", 6 H "High Terminal of Resistor"

## MAX5468EUT-T
designator U?
Digital Potentiometer with 2-Wire Serial Control Interface, Volatile, Linear Taper, 32 Steps, -40 to 85 degC, 6-pin SOT (U6-1), Tape and Reel; PartNumber: MAX5468EUT-T; DatasheetVersion: Rev. 3; PackageVersion: Rev. N, 08/2012; PackageReference: U6-1; PackageDescription: 6-Pin Small-Outline Transistor Package (U6-1), Body 2.9 x 1.625 mm, Pitch 0.95 mm; Supplier 1: Mouser; Supplier Part Number 1: N/A; Control Interface: 2-Wire Serial; Mounting Technology: Surface Mount; Code_JEDEC: MO178; ComponentLink1Description: Manufacturer URL; ComponentLink1URL: http://www.maximintegrated.com/; ComponentLink2Description: Datasheet; ComponentLink2URL: http://datasheets.maximintegrated.com/en/ds/MAX5460-MAX5468.pdf; ComponentLink3Description: Package Specification; ComponentLink3URL: http://pdfserv.maximintegrated.com/package_dwgs/21-0058.PDF
footprint MAXM-U6-1_N (SOT23, 6-Leads, Body 2.9x1.625mm, Pitch 0.95mm, IPC Medium Density)
footprint MAXM-U6-1_L (SOT23, 6-Leads, Body 2.9x1.625mm, Pitch 0.95mm, IPC High Density)
footprint MAXM-U6-1_M (SOT23, 6-Leads, Body 2.9x1.625mm, Pitch 0.95mm, IPC Low Density)
pins: 1 VDD (power) "Power Supply", 2 GND (power) "Ground", 3 U/~{D} (in) "Up/D\o\w\n\ Control Input. With C\S\ low, a low-to-high transition increments or decrements the wiper position.", 4 ~{CS} (in) "Chip Select Input. A high-to-low C\S\ transition determines the mode: increment if U/D\ is high, or decrement if U/D\ is low.", 5 W "Wiper Terminal of Resistor", 6 H "High Terminal of Resistor"

## MAX5471EZT
designator U?
50 Kohm Variable Resistor with Up/Down Control Interface, Non-Volatile, Linear Taper, 32 Steps, -40 to 85 degC, 6-pin TSOT (Z6-1); PartNumber: MAX5471EZT; DatasheetVersion: Rev. 1; PackageVersion: Rev. D, 05/2011; PackageReference: Z6-1; PackageDescription: 6-Pin Thin Small-Outline Transistor (Z6-1), Body 2.9 x 1.6 mm, Pitch 0.95 mm; Supplier 1: Mouser; Supplier Part Number 1: N/A; Control Interface: Up/Down; Features: EEPROM Wiper Memory; Mounting Technology: Surface Mount; Code_JEDEC: MO-193; ComponentLink1Description: Manufacturer URL; ComponentLink1URL: http://www.maximintegrated.com/; ComponentLink2Description: Datasheet; ComponentLink2URL: http://datasheets.maximintegrated.com/en/ds/MAX5471-MAX5475.pdf; ComponentLink3Description: Package Specification; ComponentLink3URL: http://pdfserv.maximintegrated.com/package_dwgs/21-0114.PDF
footprint MAXM-Z6-1_N (SOT23, 6-Leads, Body 2.9x1.6mm, Pitch 0.95mm, IPC Medium Density)
footprint MAXM-Z6-1_L (SOT23, 6-Leads, Body 2.9x1.6mm, Pitch 0.95mm, IPC High Density)
footprint MAXM-Z6-1_M (SOT23, 6-Leads, Body 2.9x1.6mm, Pitch 0.95mm, IPC Low Density)
pins: 1 ~{CS} (in) "Chip-Select Input. Drive low to change wiper position (W) through I\N\C\and U/D\. A low-to-high transition with I\N\C\ high stores the wiper position in nonvolatile memory.", 2 GND (power) "Ground", 3 U/~{D} (in) "Up/Down Control Input. With U/D\ low, a high-to-low I\N\C\ transition decrements the wiper position. With U/D\ high, a high-to-low I\N\C\ transition increments the wiper position.", 4 ~{INC} (in) "Wiper Increment Control Input. With C\S\ low, the wiper position moves in the direction determined by the state of U/D\ on a high-to-low transition.", 5 H "High Terminal of Resistor. The voltage at H can be greater than or less than the voltage at L.Current can flow into or out of H.", 6 VDD (power) "Power Supply"

## MAX5471EZT+
designator U?
50 Kohm Variable Resistor with Up/Down Control Interface, Non-Volatile, Linear Taper, 32 Steps, -40 to 85 degC, 6-pin TSOT (Z6+1), Pb-Free; PartNumber: MAX5471EZT+; DatasheetVersion: Rev. 1; PackageVersion: Rev. D, 05/2011; PackageReference: Z6+1; PackageDescription: 6-Pin Thin Small-Outline Transistor (Z6+1), Body 2.9 x 1.6 mm, Pitch 0.95 mm; Supplier 1: Mouser; Supplier Part Number 1: N/A; Control Interface: Up/Down; Features: EEPROM Wiper Memory; Mounting Technology: Surface Mount; Code_JEDEC: MO-193; ComponentLink1Description: Manufacturer URL; ComponentLink1URL: http://www.maximintegrated.com/; ComponentLink2Description: Datasheet; ComponentLink2URL: http://datasheets.maximintegrated.com/en/ds/MAX5471-MAX5475.pdf; ComponentLink3Description: Package Specification; ComponentLink3URL: http://pdfserv.maximintegrated.com/package_dwgs/21-0114.PDF
footprint MAXM-Z6+1_N (SOT23, 6-Leads, Body 2.9x1.6mm, Pitch 0.95mm, IPC Medium Density)
footprint MAXM-Z6+1_L (SOT23, 6-Leads, Body 2.9x1.6mm, Pitch 0.95mm, IPC High Density)
footprint MAXM-Z6+1_M (SOT23, 6-Leads, Body 2.9x1.6mm, Pitch 0.95mm, IPC Low Density)
pins: 1 ~{CS} (in) "Chip-Select Input. Drive low to change wiper position (W) through I\N\C\and U/D\. A low-to-high transition with I\N\C\ high stores the wiper position in nonvolatile memory.", 2 GND (power) "Ground", 3 U/~{D} (in) "Up/Down Control Input. With U/D\ low, a high-to-low I\N\C\ transition decrements the wiper position. With U/D\ high, a high-to-low I\N\C\ transition increments the wiper position.", 4 ~{INC} (in) "Wiper Increment Control Input. With C\S\ low, the wiper position moves in the direction determined by the state of U/D\ on a high-to-low transition.", 5 H "High Terminal of Resistor. The voltage at H can be greater than or less than the voltage at L.Current can flow into or out of H.", 6 VDD (power) "Power Supply"

## MAX5471EZT+T
designator U?
50 Kohm Variable Resistor with Up/Down Control Interface, Non-Volatile, Linear Taper, 32 Steps, -40 to 85 degC, 6-pin TSOT (Z6+1), Pb-Free, Tape and Reel; PartNumber: MAX5471EZT+T; DatasheetVersion: Rev. 1; PackageVersion: Rev. D, 05/2011; PackageReference: Z6+1; PackageDescription: 6-Pin Thin Small-Outline Transistor (Z6+1), Body 2.9 x 1.6 mm, Pitch 0.95 mm; Supplier 1: Digi-Key; Supplier Part Number 1: MAX5471EZT+TTR-ND; Supplier 2: Digi-Key; Supplier Part Number 2: MAX5471EZT+TCT-ND; Supplier 3: Digi-Key; Supplier Part Number 3: MAX5471EZT+TDKR-ND; Supplier 4: Mouser; Supplier Part Number 4: 700-MAX5471EZT+T; Control Interface: Up/Down; Features: EEPROM Wiper Memory; Mounting Technology: Surface Mount; Code_JEDEC: MO-193; ComponentLink1Description: Manufacturer URL; ComponentLink1URL: http://www.maximintegrated.com/; ComponentLink2Description: Datasheet; ComponentLink2URL: http://datasheets.maximintegrated.com/en/ds/MAX5471-MAX5475.pdf; ComponentLink3Description: Package Specification; ComponentLink3URL: http://pdfserv.maximintegrated.com/package_dwgs/21-0114.PDF
footprint MAXM-Z6+1_N (SOT23, 6-Leads, Body 2.9x1.6mm, Pitch 0.95mm, IPC Medium Density)
footprint MAXM-Z6+1_L (SOT23, 6-Leads, Body 2.9x1.6mm, Pitch 0.95mm, IPC High Density)
footprint MAXM-Z6+1_M (SOT23, 6-Leads, Body 2.9x1.6mm, Pitch 0.95mm, IPC Low Density)
pins: 1 ~{CS} (in) "Chip-Select Input. Drive low to change wiper position (W) through I\N\C\and U/D\. A low-to-high transition with I\N\C\ high stores the wiper position in nonvolatile memory.", 2 GND (power) "Ground", 3 U/~{D} (in) "Up/Down Control Input. With U/D\ low, a high-to-low I\N\C\ transition decrements the wiper position. With U/D\ high, a high-to-low I\N\C\ transition increments the wiper position.", 4 ~{INC} (in) "Wiper Increment Control Input. With C\S\ low, the wiper position moves in the direction determined by the state of U/D\ on a high-to-low transition.", 5 H "High Terminal of Resistor. The voltage at H can be greater than or less than the voltage at L.Current can flow into or out of H.", 6 VDD (power) "Power Supply"

## MAX5471EZT-T
designator U?
50 Kohm Variable Resistor with Up/Down Control Interface, Non-Volatile, Linear Taper, 32 Steps, -40 to 85 degC, 6-pin TSOT (Z6-1), Tape and Reel; PartNumber: MAX5471EZT-T; DatasheetVersion: Rev. 1; PackageVersion: Rev. D, 05/2011; PackageReference: Z6-1; PackageDescription: 6-Pin Thin Small-Outline Transistor (Z6-1), Body 2.9 x 1.6 mm, Pitch 0.95 mm; Supplier 1: Mouser; Supplier Part Number 1: N/A; Control Interface: Up/Down; Features: EEPROM Wiper Memory; Mounting Technology: Surface Mount; Code_JEDEC: MO-193; ComponentLink1Description: Manufacturer URL; ComponentLink1URL: http://www.maximintegrated.com/; ComponentLink2Description: Datasheet; ComponentLink2URL: http://datasheets.maximintegrated.com/en/ds/MAX5471-MAX5475.pdf; ComponentLink3Description: Package Specification; ComponentLink3URL: http://pdfserv.maximintegrated.com/package_dwgs/21-0114.PDF
footprint MAXM-Z6-1_N (SOT23, 6-Leads, Body 2.9x1.6mm, Pitch 0.95mm, IPC Medium Density)
footprint MAXM-Z6-1_L (SOT23, 6-Leads, Body 2.9x1.6mm, Pitch 0.95mm, IPC High Density)
footprint MAXM-Z6-1_M (SOT23, 6-Leads, Body 2.9x1.6mm, Pitch 0.95mm, IPC Low Density)
pins: 1 ~{CS} (in) "Chip-Select Input. Drive low to change wiper position (W) through I\N\C\and U/D\. A low-to-high transition with I\N\C\ high stores the wiper position in nonvolatile memory.", 2 GND (power) "Ground", 3 U/~{D} (in) "Up/Down Control Input. With U/D\ low, a high-to-low I\N\C\ transition decrements the wiper position. With U/D\ high, a high-to-low I\N\C\ transition increments the wiper position.", 4 ~{INC} (in) "Wiper Increment Control Input. With C\S\ low, the wiper position moves in the direction determined by the state of U/D\ on a high-to-low transition.", 5 H "High Terminal of Resistor. The voltage at H can be greater than or less than the voltage at L.Current can flow into or out of H.", 6 VDD (power) "Power Supply"

## MAX5472EZT
designator U?
100 Kohm Variable Resistor with Up/Down Control Interface, Non-Volatile, Linear Taper, 32 Steps, -40 to 85 degC, 6-pin TSOT (Z6-1); PartNumber: MAX5472EZT; DatasheetVersion: Rev. 1; PackageVersion: Rev. D, 05/2011; PackageReference: Z6-1; PackageDescription: 6-Pin Thin Small-Outline Transistor (Z6-1), Body 2.9 x 1.6 mm, Pitch 0.95 mm; Supplier 1: Mouser; Supplier Part Number 1: N/A; Control Interface: Up/Down; Features: EEPROM Wiper Memory; Mounting Technology: Surface Mount; Code_JEDEC: MO-193; ComponentLink1Description: Manufacturer URL; ComponentLink1URL: http://www.maximintegrated.com/; ComponentLink2Description: Datasheet; ComponentLink2URL: http://datasheets.maximintegrated.com/en/ds/MAX5471-MAX5475.pdf; ComponentLink3Description: Package Specification; ComponentLink3URL: http://pdfserv.maximintegrated.com/package_dwgs/21-0114.PDF
footprint MAXM-Z6-1_N (SOT23, 6-Leads, Body 2.9x1.6mm, Pitch 0.95mm, IPC Medium Density)
footprint MAXM-Z6-1_L (SOT23, 6-Leads, Body 2.9x1.6mm, Pitch 0.95mm, IPC High Density)
footprint MAXM-Z6-1_M (SOT23, 6-Leads, Body 2.9x1.6mm, Pitch 0.95mm, IPC Low Density)
pins: 1 ~{CS} (in) "Chip-Select Input. Drive low to change wiper position (W) through I\N\C\and U/D\. A low-to-high transition with I\N\C\ high stores the wiper position in nonvolatile memory.", 2 GND (power) "Ground", 3 U/~{D} (in) "Up/Down Control Input. With U/D\ low, a high-to-low I\N\C\ transition decrements the wiper position. With U/D\ high, a high-to-low I\N\C\ transition increments the wiper position.", 4 ~{INC} (in) "Wiper Increment Control Input. With C\S\ low, the wiper position moves in the direction determined by the state of U/D\ on a high-to-low transition.", 5 H "High Terminal of Resistor. The voltage at H can be greater than or less than the voltage at L.Current can flow into or out of H.", 6 VDD (power) "Power Supply"

## MAX5472EZT+T
designator U?
100 Kohm Variable Resistor with Up/Down Control Interface, Non-Volatile, Linear Taper, 32 Steps, -40 to 85 degC, 6-pin TSOT (Z6+1), Pb-Free, Tape and Reel; PartNumber: MAX5472EZT+T; DatasheetVersion: Rev. 1; PackageVersion: Rev. D, 05/2011; PackageReference: Z6+1; PackageDescription: 6-Pin Thin Small-Outline Transistor (Z6+1), Body 2.9 x 1.6 mm, Pitch 0.95 mm; Supplier 1: Digi-Key; Supplier Part Number 1: MAX5472EZT+TTR-ND; Supplier 2: Digi-Key; Supplier Part Number 2: MAX5472EZT+TCT-ND; Supplier 3: Digi-Key; Supplier Part Number 3: MAX5472EZT+TDKR-ND; Supplier 4: Mouser; Supplier Part Number 4: 700-MAX5472EZTT; Control Interface: Up/Down; Features: EEPROM Wiper Memory; Mounting Technology: Surface Mount; Code_JEDEC: MO-193; ComponentLink1Description: Manufacturer URL; ComponentLink1URL: http://www.maximintegrated.com/; ComponentLink2Description: Datasheet; ComponentLink2URL: http://datasheets.maximintegrated.com/en/ds/MAX5471-MAX5475.pdf; ComponentLink3Description: Package Specification; ComponentLink3URL: http://pdfserv.maximintegrated.com/package_dwgs/21-0114.PDF
footprint MAXM-Z6+1_N (SOT23, 6-Leads, Body 2.9x1.6mm, Pitch 0.95mm, IPC Medium Density)
footprint MAXM-Z6+1_L (SOT23, 6-Leads, Body 2.9x1.6mm, Pitch 0.95mm, IPC High Density)
footprint MAXM-Z6+1_M (SOT23, 6-Leads, Body 2.9x1.6mm, Pitch 0.95mm, IPC Low Density)
pins: 1 ~{CS} (in) "Chip-Select Input. Drive low to change wiper position (W) through I\N\C\and U/D\. A low-to-high transition with I\N\C\ high stores the wiper position in nonvolatile memory.", 2 GND (power) "Ground", 3 U/~{D} (in) "Up/Down Control Input. With U/D\ low, a high-to-low I\N\C\ transition decrements the wiper position. With U/D\ high, a high-to-low I\N\C\ transition increments the wiper position.", 4 ~{INC} (in) "Wiper Increment Control Input. With C\S\ low, the wiper position moves in the direction determined by the state of U/D\ on a high-to-low transition.", 5 H "High Terminal of Resistor. The voltage at H can be greater than or less than the voltage at L.Current can flow into or out of H.", 6 VDD (power) "Power Supply"

## MAX5472EZT-T
designator U?
100 Kohm Variable Resistor with Up/Down Control Interface, Non-Volatile, Linear Taper, 32 Steps, -40 to 85 degC, 6-pin TSOT (Z6-1), Tape and Reel; PartNumber: MAX5472EZT-T; DatasheetVersion: Rev. 1; PackageVersion: Rev. D, 05/2011; PackageReference: Z6-1; PackageDescription: 6-Pin Thin Small-Outline Transistor (Z6-1), Body 2.9 x 1.6 mm, Pitch 0.95 mm; Supplier 1: Mouser; Supplier Part Number 1: N/A; Control Interface: Up/Down; Features: EEPROM Wiper Memory; Mounting Technology: Surface Mount; Code_JEDEC: MO-193; ComponentLink1Description: Manufacturer URL; ComponentLink1URL: http://www.maximintegrated.com/; ComponentLink2Description: Datasheet; ComponentLink2URL: http://datasheets.maximintegrated.com/en/ds/MAX5471-MAX5475.pdf; ComponentLink3Description: Package Specification; ComponentLink3URL: http://pdfserv.maximintegrated.com/package_dwgs/21-0114.PDF
footprint MAXM-Z6-1_N (SOT23, 6-Leads, Body 2.9x1.6mm, Pitch 0.95mm, IPC Medium Density)
footprint MAXM-Z6-1_L (SOT23, 6-Leads, Body 2.9x1.6mm, Pitch 0.95mm, IPC High Density)
footprint MAXM-Z6-1_M (SOT23, 6-Leads, Body 2.9x1.6mm, Pitch 0.95mm, IPC Low Density)
pins: 1 ~{CS} (in) "Chip-Select Input. Drive low to change wiper position (W) through I\N\C\and U/D\. A low-to-high transition with I\N\C\ high stores the wiper position in nonvolatile memory.", 2 GND (power) "Ground", 3 U/~{D} (in) "Up/Down Control Input. With U/D\ low, a high-to-low I\N\C\ transition decrements the wiper position. With U/D\ high, a high-to-low I\N\C\ transition increments the wiper position.", 4 ~{INC} (in) "Wiper Increment Control Input. With C\S\ low, the wiper position moves in the direction determined by the state of U/D\ on a high-to-low transition.", 5 H "High Terminal of Resistor. The voltage at H can be greater than or less than the voltage at L.Current can flow into or out of H.", 6 VDD (power) "Power Supply"